# Altium schematic symbol library PedalControl.SchLib: 6 symbols
Pins are listed as number, name and electrical type; pins without a type are passive.

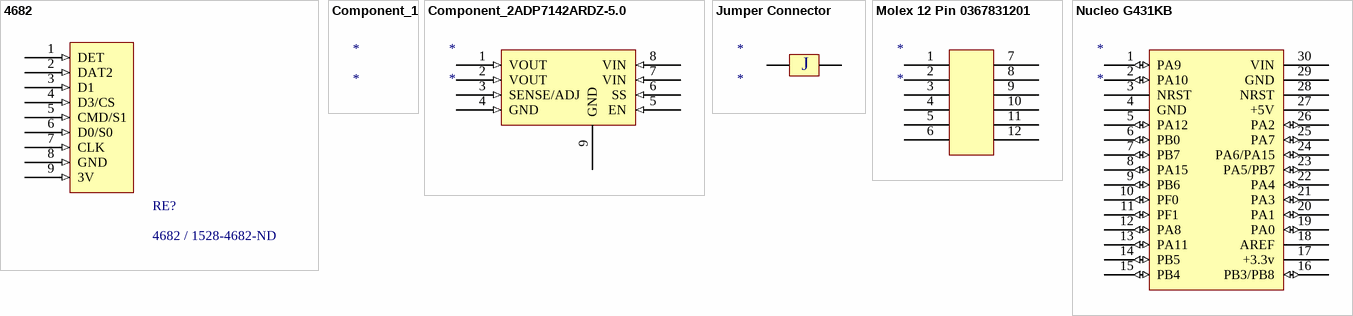
[diagram p0: symbols 4682 to Nucleo G431KB]

## 4682
designator RE?, comment 4682 / 1528-4682-ND
MICROSD SPI/SPIO BREAKOUT BOARD; Manufacturer: Adafruit Industries; Manufacturer Part Number: 4682; Supplier: Arrow Electronics; Supplier Part Number: 4682; RoHS: No; Stock: 408; Pricing: 1=3.556 (USD)
footprint SDCARD
footprint SDCARD
pins: 1 DET (in), 2 DAT2 (in), 3 D1 (in), 4 D3/CS (in), 5 CMD/S1 (in), 6 D0/S0 (in), 7 CLK (in), 8 GND (in), 9 3V (in)

## Component_1
designator *

## Component_2ADP7142ARDZ-5.0
designator *
footprint ADP7142ARDZ-5.0
pins: 1 VOUT (in), 2 VOUT (in), 3 SENSE/ADJ (in), 4 GND (in), 5 EN (in), 6 SS (in), 7 VIN (in), 8 VIN (in), 9 GND (power)

## Jumper Connector
designator *
footprint Jumper Connector
pins: 1, 2
text: J

## Molex 12 Pin 0367831201
designator *
footprint Molex 12 pos 0367831201 - duplicate
pins: 1, 2, 3, 4, 5, 6, 7, 8, 9, 10, 11, 12

## Nucleo G431KB
designator *
pins: 1 PA9 (io), 2 PA10 (io), 3 NRST, 4 GND (power), 5 PA12 (io), 6 PB0 (io), 7 PB7 (io), 8 PA15 (io), 9 PB6 (io), 10 PF0 (io), 11 PF1 (io), 12 PA8 (io), 13 PA11 (io), 14 PB5 (io), 15 PB4 (io), 16 PB3/PB8 (io), 17 +3.3v (power), 18 AREF (power), 19 PA0 (io), 20 PA1 (io), 21 PA3 (io), 22 PA4 (io), 23 PA5/PB7 (io), 24 PA6/PA15 (io), 25 PA7 (io), 26 PA2 (io), 27 +5V (power), 28 NRST (power), 29 GND (power), 30 VIN (power)